# Altium footprint library PAM2321.PcbLib: 1 footprints
Each footprint in its own frame and in the unit in brackets; x right, y up, seen from the top. Pads: shape width x height; smd on the part's side, far side on the other; paste and mask are expansions set on the pad; w line width, h text height; cw(c..) or ccw(c..) is an arc to the next point about the centre after c.
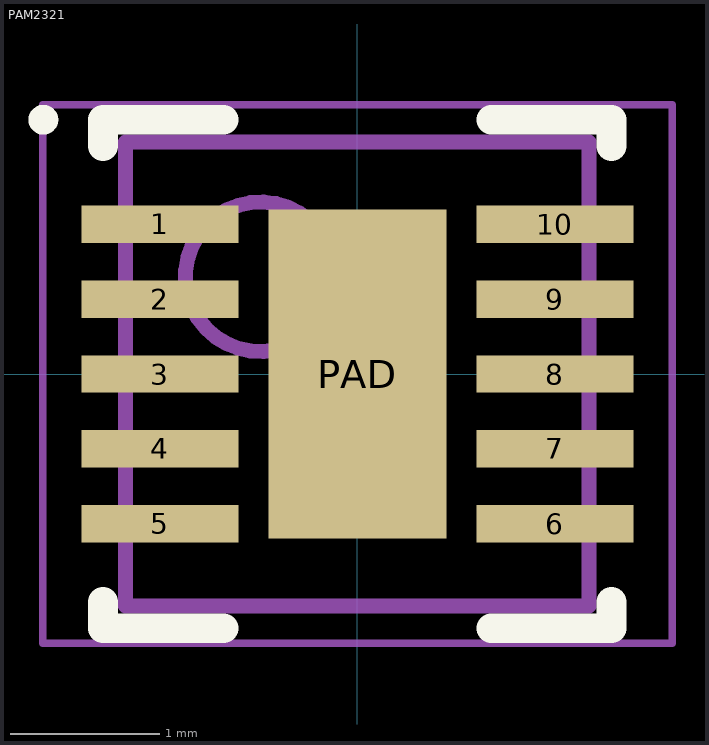
[diagram p0: the footprint, top view; thin cyan lines are the x and y axes]

## PAM2321 [mm] "2A Step-down Switchmode Regulator"
height 0.75
pads (11):
  rect 1.05x0.25 smd: 1(-1.32,1) 2(-1.32,0.5) 3(-1.32,0) 4(-1.32,-0.5) 5(-1.32,-1) 6(1.32,-1) 7(1.32,-0.5) 8(1.32,0) 9(1.32,0.5) 10(1.32,1)
  rect 1.19x2.2 smd: PAD(0,0)
Top Overlay:
  circle w0.1: c-2.1,1.7 r0.05
  lines w0.2: -1.7,-1.525 -1.7,-1.7 -0.895,-1.7 ; -1.7,1.525 -1.7,1.7 -0.895,1.7 ; 0.895,-1.7 1.7,-1.7 1.7,-1.525 ; 0.895,1.7 1.7,1.7 1.7,1.525
Mechanical 13:
  circle w0.1: c-0.65,0.65 r0.5
  lines w0.1: -1.55,-1.55 1.55,-1.55 1.55,1.55 -1.55,1.55 -1.55,-1.55
Mechanical 15:
  lines w0.05: -2.105,-1.8 2.105,-1.8 2.105,1.8 -2.105,1.8 -2.105,-1.8
  lines w0.1: -0.5,0 0.5,0 ; 0,-0.5 0,0.5
3D body: height 0.75, standoff 0.02, extent -1.55,-1.55 1.55,1.55